# Altium footprint library passive.PcbLib: 47 footprints (part 2 of 3)
Each footprint in its own frame and in the unit in brackets; x right, y up, seen from the top. Pads: shape width x height; smd on the part's side, far side on the other; paste and mask are expansions set on the pad; w line width, h text height; cw(c..) or ccw(c..) is an arc to the next point about the centre after c.
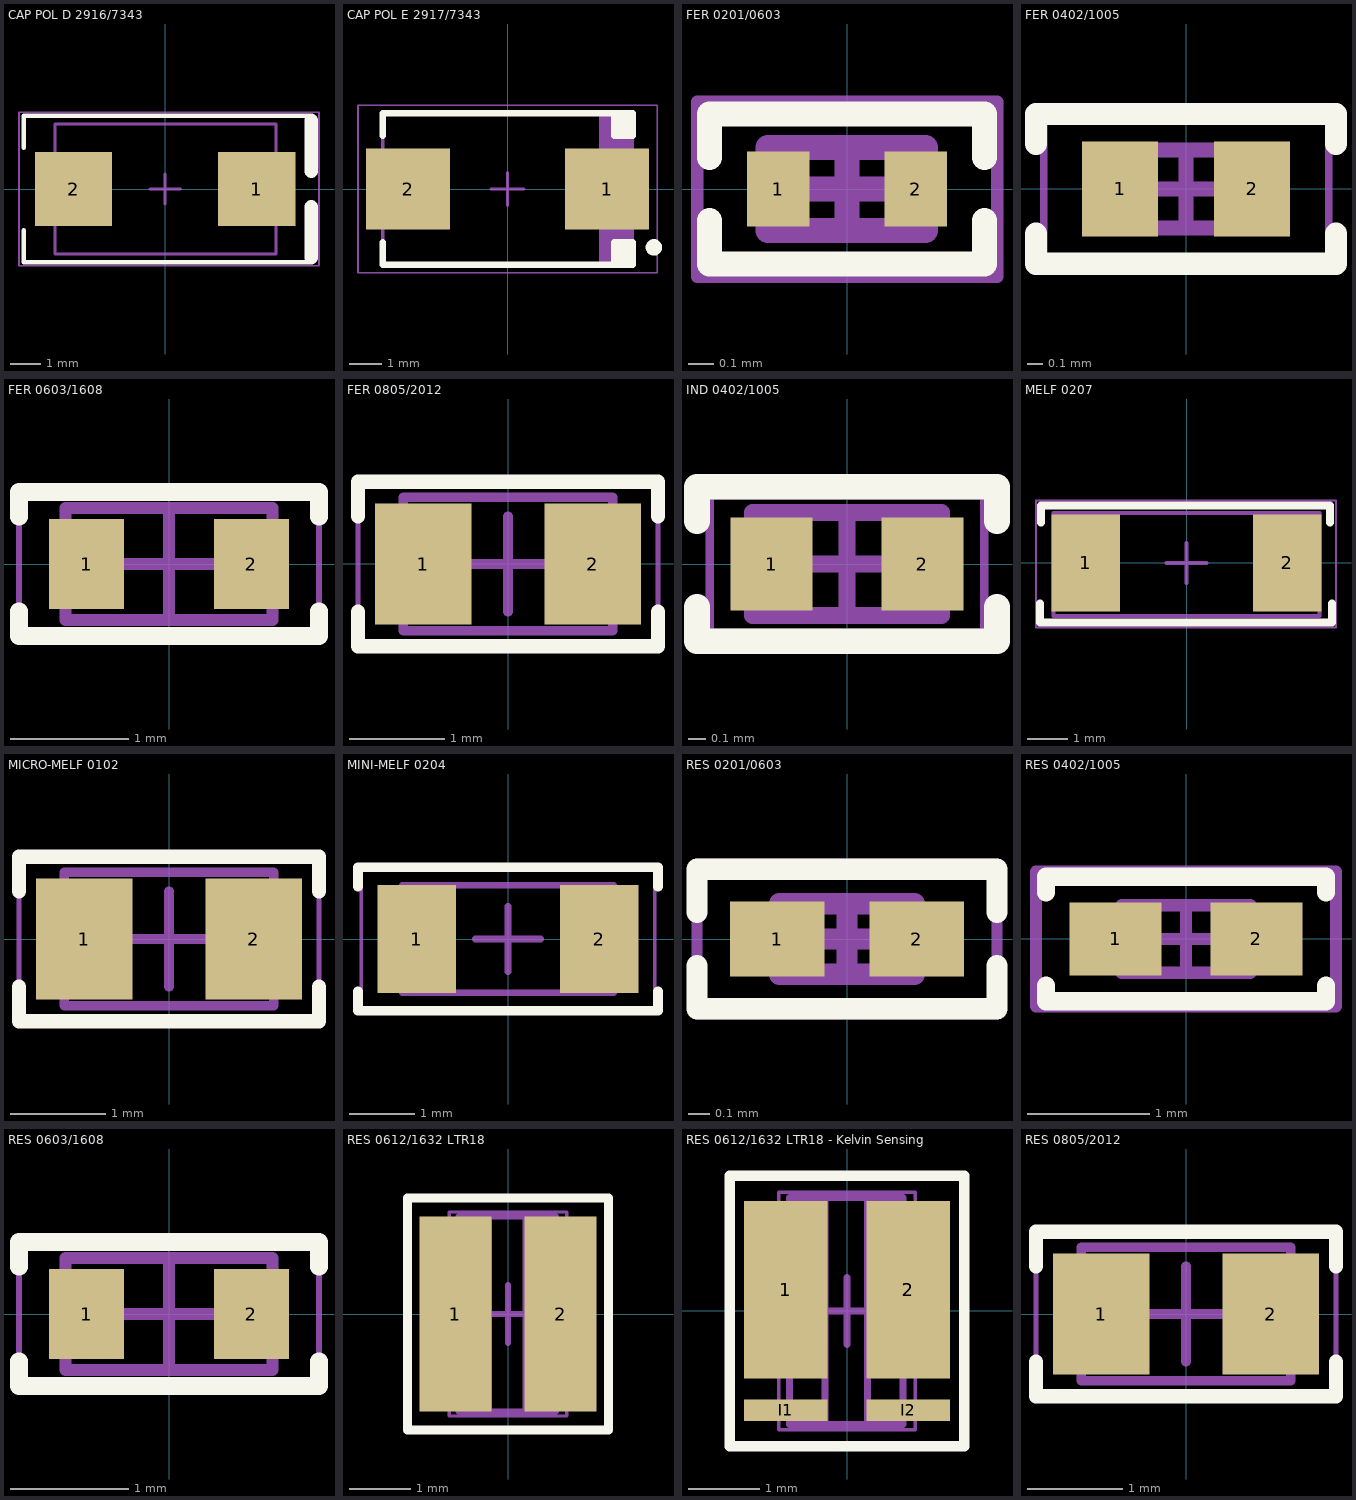
[diagram p1: the footprints below, top view; thin cyan lines are the x and y axes]

## CAP POL D 2916/7343 [mm] "Molded Capacitor, 2-Leads, Body 7.30x4.30mm, IPC Medium Density"
height 2.6
pads (2):
  rect 2.55x2.45 smd: 1(3.025,0) 2(-3.025,0)
Top Overlay:
  lines w0.15: -4.674,-1.358 -4.674,-2.413 4.826,-2.413 ; -4.674,1.358 -4.674,2.413 4.826,2.413
  lines w0.457: 4.826,-2.261 4.826,-0.584 ; 4.826,0.584 4.826,2.261
Mechanical 13:
  lines w0.1: -3.642,-2.15 -3.642,2.15 3.658,2.15 3.658,-2.15 -3.642,-2.15
Mechanical 15:
  lines w0.05: -4.826,-2.54 5.08,-2.54 5.08,2.54 -4.826,2.54 -4.826,-2.54
  lines w0.1: -0.5,0 0.5,0 ; 0,-0.5 0,0.5
3D body "CAP Tant 7343-31.STEP": height 3.1, standoff 0, extent -3.8,-2.3 3.8,2.3

## CAP POL E 2917/7343 [mm] "Molded Capacitor, 2-Leads, Body 7.30x4.30mm, IPC Medium Density"
height 4.3
pads (2):
  rect 2.55x2.45 smd: 1(3.025,0) 2(-3.025,0)
Top Overlay:
  circle w0.25: c4.45,-1.775 r0.125
  region: 3.8,2.3 3.25,2.3 3.25,1.625 3.8,1.625
  region: 3.8,-1.625 3.25,-1.625 3.25,-2.3 3.8,-2.3
  lines w0.2: -3.8,-1.625 -3.8,-2.3 3.8,-2.3 3.8,-1.625 3.25,-1.625 3.25,-2.3 ; -3.8,1.625 -3.8,2.3 3.8,2.3 3.8,1.625 3.25,1.625 3.25,2.3
Mechanical 13:
  region: 3.8,2.3 2.778,2.3 2.778,-2.3 3.8,-2.3
  lines w0.1: -3.8,-2.3 -3.8,2.3 3.8,2.3 3.8,-2.3 -3.8,-2.3
Mechanical 15:
  lines w0.05: -4.55,-2.55 -4.55,2.55 4.55,2.55 4.55,-2.55 -4.55,-2.55
  lines w0.1: -0.5,0 0.5,0 ; 0,-0.5 0,0.5
3D body "Tantalum Capacitor case E.STEP": height 4.1, standoff 0, extent -3.65,-2.15 3.65,2.15

## FER 0201/0603 [mm] "Chip Inductor, 2-Leads, Body 0.60x0.30mm, IPC Medium Density"
height 0.33
pads (2):
  rect 0.25x0.3 smd: 1(-0.275,0) 2(0.275,0)
Top Overlay:
  lines w0.1: -0.55,-0.125 -0.55,-0.3 0.55,-0.3 0.55,-0.125 ; -0.55,0.125 -0.55,0.3 0.55,0.3 0.55,0.125
Mechanical 13:
  lines w0.1: -0.315,-0.165 -0.315,0.165 0.315,0.165 0.315,-0.165 -0.315,-0.165
Mechanical 15:
  lines w0.05: -0.6,-0.35 -0.6,0.35 0.6,0.35 0.6,-0.35 -0.6,-0.35
  lines w0.1: -0.165,0 0.165,0 ; 0,-0.165 0,0.165
3D body "FER 0201.STEP": height 0.29, standoff -0.01, extent -0.3,-0.15 0.3,0.15

## FER 0402/1005 [mm] "Chip Ferrite, 2-Leads, Body 1.02x0.51mm, IPC Medium Density"
height 0.52
pads (2):
  rect 0.508x0.635 smd: 1(-0.44,0) 2(0.44,0)
Top Overlay:
  lines w0.15: -1,-0.3 -1,-0.5 1,-0.5 1,-0.3 ; -1,0.3 -1,0.5 1,0.5 1,0.3
Mechanical 13:
  lines w0.1: -0.515,-0.26 -0.515,0.26 0.515,0.26 0.515,-0.26 -0.515,-0.26
Mechanical 15:
  lines w0.05: -0.95,-0.5 -0.95,0.5 0.95,0.5 0.95,-0.5 -0.95,-0.5
  lines w0.1: -0.26,0 0.26,0 ; 0,-0.26 0,0.26
3D body "FER 0402.STEP": height 0.52, standoff 0, extent -0.5,-0.262 0.5,0.262

## FER 0603/1608 [mil] "Chip Ferrite, 2-Leads, Body 1.60x0.80mm, IPC Medium Density"
height 35.04
pads (2):
  rect 25x30 smd: 1(-27.5,0) 2(27.5,0)
Top Overlay:
  lines w5.91: -50,-15.75 -50,-24 50,-24 50,-15.75 ; -50,15.75 -50,24 50,24 50,15.75
Mechanical 13:
  lines w3.94: -34.45,-18.7 -34.45,18.7 34.45,18.7 34.45,-18.7 -34.45,-18.7
Mechanical 15:
  lines w1.97: -50,-23 -50,23 50,23 50,-23 -50,-23
  lines w3.94: -18.7,0 18.7,0 ; 0,-18.7 0,18.7
3D body "FER 0603.STEP": height 32.44, standoff 0, extent -31.49,-16.22 31.5,16.22

## FER 0805/2012 [mil] "Chip Ferrite, 2-Leads, Body 2.00x1.20mm, IPC Medium Density"
height 45.28
pads (2):
  rect 40x50 smd: 1(-35,0) 2(35,0)
Top Overlay:
  lines w5.91: -62,-19.69 -62,-34 62,-34 62,-19.69 ; -62,19.68 -62,34 62,34 62,19.68
Mechanical 13:
  lines w3.94: -43.31,-27.56 43.31,-27.56 43.31,27.56 -43.31,27.56 -43.31,-27.56
Mechanical 15:
  lines w1.97: -62,-34 62,-34 62,34 -62,34 -62,-34
  lines w3.94: -19.69,0 19.68,0 ; 0,-19.69 0,19.68
3D body "FER 0805.STEP": height 49.49, standoff -0.67, extent -39.37,-25.16 39.37,25

## IND 0402/1005 [mm] "Chip Inductor, 2-Leads, Body 1.00x0.50mm, IPC High Density"
height 0.6
pads (2):
  rect 0.48x0.54 smd: 1(-0.44,0) 2(0.44,0)
Top Overlay:
  lines w0.15: -0.875,-0.25 -0.875,-0.45 0.875,-0.45 0.875,-0.25 ; -0.875,0.25 -0.875,0.45 0.875,0.45 0.875,0.25
Mechanical 13:
  lines w0.1: -0.55,-0.3 0.55,-0.3 0.55,0.3 -0.55,0.3 -0.55,-0.3
Mechanical 15:
  lines w0.05: -0.8,-0.4 0.8,-0.4 0.8,0.4 -0.8,0.4 -0.8,-0.4
  lines w0.1: -0.3,0 0.3,0 ; 0,-0.3 0,0.3
3D body "IND-WireWound_TOP.STEP": height 0.51, standoff 0.26, extent -0.5,-0.287 0.5,0.287
3D body "IND-WireWound.STEP": height 0.5, standoff 0, extent -0.5,-0.277 0.5,0.277

## MELF 0207 [mm]
pads (2):
  rect 1.7x2.4 smd: 1(-2.5,0) 2(2.5,0)
Top Overlay:
  lines w0.2: -3.632,-1 -3.632,-1.473 3.607,-1.473 3.607,-1 ; -3.607,1 -3.607,1.422 3.556,1.422 3.556,1
Mechanical 13:
  lines w0.1: -3.3,-1.321 -3.3,1.245 3.3,1.245 3.3,-1.321 -3.3,-1.321
Mechanical 15:
  lines w0.05: -3.734,-1.6 -3.734,1.549 3.708,1.549 3.708,-1.6 -3.734,-1.6
  lines w0.1: -0.5,0 0.5,0 ; 0,-0.5 0,0.5
3D body "RESMELF-0207.stp": height 2.2, standoff 0, extent -2.9,-1.041 2.9,1.15

## MICRO-MELF 0102 [mil]
pads (2):
  rect 40x50 smd: 1(-35,0) 2(35,0)
Top Overlay:
  lines w5.91: -62,-19.68 -62,-34 62,-34 62,-19.68 ; -62,19.68 -62,34 62,34 62,19.68
Mechanical 13:
  lines w3.94: -43.31,-27.56 -43.31,27.56 43.31,27.56 43.31,-27.56 -43.31,-27.56
Mechanical 15:
  lines w1.97: -62,-34 -62,34 62,34 62,-34 -62,-34
  lines w3.94: -19.69,0 19.68,0 ; 0,-19.68 0,19.69
3D body "RESMELF-0102.stp": height 41.3, standoff -1.93, extent -43.31,-22 43.31,21.14

## MINI-MELF 0204 [mm]
pads (2):
  rect 1.2x1.65 smd: 1(-1.4,0) 2(1.4,0)
Top Overlay:
  lines w0.15: -2.3,-0.8 -2.3,-1.1 2.3,-1.1 2.3,-0.8 ; -2.3,0.8 -2.3,1.1 2.3,1.1 2.3,0.8
Mechanical 13:
  lines w0.1: -1.625,-0.825 -1.625,0.825 1.625,0.825 1.625,-0.825 -1.625,-0.825
Mechanical 15:
  lines w0.05: -2.25,-1.1 -2.25,1.1 2.25,1.1 2.25,-1.1 -2.25,-1.1
  lines w0.1: -0.5,0 0.5,0 ; 0,-0.5 0,0.5
3D body "RESMELF-0204.stp": height 1.4, standoff 0, extent -1.8,-0.686 1.8,0.709

## RES 0201/0603 [mm] "Chip Resistor, 2-Leads, Body 0.60x0.30mm, IPC Medium Density"
height 0.26
pads (2):
  rect 0.44x0.35 smd: 1(-0.325,0) 2(0.325,0)
Top Overlay:
  lines w0.1: -0.7,-0.125 -0.7,-0.325 0.7,-0.325 0.7,-0.125 ; -0.7,0.125 -0.7,0.325 0.7,0.325 0.7,0.125
Mechanical 13:
  lines w0.1: -0.315,-0.165 0.315,-0.165 0.315,0.165 -0.315,0.165 -0.315,-0.165
Mechanical 15:
  lines w0.05: -0.7,-0.35 0.7,-0.35 0.7,0.35 -0.7,0.35 -0.7,-0.35
  lines w0.1: -0.165,0 0.165,0 ; 0,-0.165 0,0.165
3D body "RES 0201.STEP": height 0.21, standoff -0.01, extent -0.3,-0.15 0.3,0.15

## RES 0402/1005 [mm] "Chip Resistor, 2-Leads, Body 1.0x0.5mm, IPC Medium Density"
height 0.4
pads (2):
  rect 0.75x0.6 smd: 1(-0.575,0) 2(0.575,0)
Top Overlay:
  lines w0.15: -1.143,-0.381 -1.143,-0.508 1.143,-0.508 1.143,-0.381 ; -1.143,0.381 -1.143,0.508 1.143,0.508 1.143,0.381
Mechanical 13:
  lines w0.1: -0.525,-0.275 -0.525,0.275 0.525,0.275 0.525,-0.275 -0.525,-0.275
Mechanical 15:
  lines w0.1: -0.275,0 0.275,0 ; 0,-0.275 0,0.275 ; -1.225,-0.55 -1.225,0.55 1.225,0.55 1.225,-0.55 -1.225,-0.55
3D body "0402 resistor.STEP": height 0.35, standoff 0, extent -0.5,-0.25 0.5,0.25

## RES 0603/1608 [mil] "Chip Resistor, 2-Leads, Body 1.60x0.80mm, IPC Medium Density"
height 17.72
pads (2):
  rect 25x30 smd: 1(-27.5,0) 2(27.5,0)
Top Overlay:
  lines w5.91: -50,-15.75 -50,-24 50,-24 50,-15.75 ; -50,15.75 -50,24 50,24 50,15.75
Mechanical 13:
  lines w3.94: -34.45,-18.7 -34.45,18.7 34.45,18.7 34.45,-18.7 -34.45,-18.7
Mechanical 15:
  lines w1.97: -50,-23 -50,23 50,23 50,-23 -50,-23
  lines w3.94: -18.7,0 18.7,0 ; 0,-18.7 0,18.7
3D body "0603 resistor.STEP": height 17.72, standoff 0, extent -31.5,-15.75 31.5,15.75

## RES 0612/1632 LTR18 [mm] "Resistor, 2-Leads, Body 0.58mmx1.60"
height 0.89
pads (2):
  rect 1.18x3.2 smd: 1(-0.865,0) 2(0.865,0)
Top Overlay:
  lines w0.15: -1.651,-1.905 1.651,-1.905 1.651,1.905 -1.651,1.905 -1.651,-1.905
Mechanical 13:
  lines w0.1: -0.313,-1.6 -0.313,1.6 ; 0.287,-1.6 0.287,1.6 ; -0.813,-1.6 -0.813,1.6 0.787,1.6 0.787,-1.6 -0.813,-1.6
Mechanical 15:
  lines w0.05: -0.965,-1.676 0.965,-1.676 0.965,1.676 -0.965,1.676 -0.965,-1.676
  lines w0.1: -0.475,0 0.475,0 ; 0,-0.475 0,0.475
3D body: height 0.58, standoff 0, extent -0.813,-1.6 -0.313,1.6
3D body: height 0.58, standoff 0, extent 0.287,-1.6 0.787,1.6
3D body: height 0.58, standoff 0, extent -0.313,-1.6 0.287,1.6

## RES 0612/1632 LTR18 - Kelvin Sensing [mm] "Resistor, 2-Leads, Body 0.58mmx1.60"
height 0.89
pads (4):
  rect 1.18x2.5 smd: 1(-0.865,0.3) 2(0.865,0.3)
  rect 1.18x0.3 smd: I1(-0.865,-1.4) I2(0.865,-1.4)
Top Overlay:
  lines w0.15: -1.651,-1.905 -1.651,1.905 1.651,1.905 1.651,-1.905 -1.651,-1.905
Mechanical 13:
  lines w0.1: -0.313,-1.6 -0.313,1.6 ; 0.287,-1.6 0.287,1.6 ; -0.813,-1.6 0.787,-1.6 0.787,1.6 -0.813,1.6 -0.813,-1.6
Mechanical 15:
  lines w0.05: -0.965,-1.676 -0.965,1.676 0.965,1.676 0.965,-1.676 -0.965,-1.676
  lines w0.1: -0.475,0 0.475,0 ; 0,-0.475 0,0.475
3D body: height 0.58, standoff 0, extent -0.313,-1.6 0.287,1.6
3D body: height 0.58, standoff 0, extent 0.287,-1.6 0.787,1.6
3D body: height 0.58, standoff 0, extent -0.813,-1.6 -0.313,1.6

## RES 0805/2012 [mil] "Chip Resistor, 2-Leads, Body 2.00x1.25mm, IPC Medium Density"
height 27.56
pads (2):
  rect 40x50 smd: 1(-35,0) 2(35,0)
Top Overlay:
  lines w5.91: -62,-19.68 -62,-34 62,-34 62,-19.68 ; -62,19.68 -62,34 62,34 62,19.68
Mechanical 13:
  lines w3.94: -43.31,-27.56 -43.31,27.56 43.31,27.56 43.31,-27.56 -43.31,-27.56
Mechanical 15:
  lines w1.97: -62,-34 -62,34 62,34 62,-34 -62,-34
  lines w3.94: -19.69,0 19.68,0 ; 0,-19.68 0,19.69
3D body "0805 resistor.STEP": height 23.62, standoff 0, extent -37.39,-24.6 41.34,24.61